# Altium schematic symbol library Integral_Digital.SchLib: 5 symbols
Pins are listed as number, name and electrical type; pins without a type are passive.

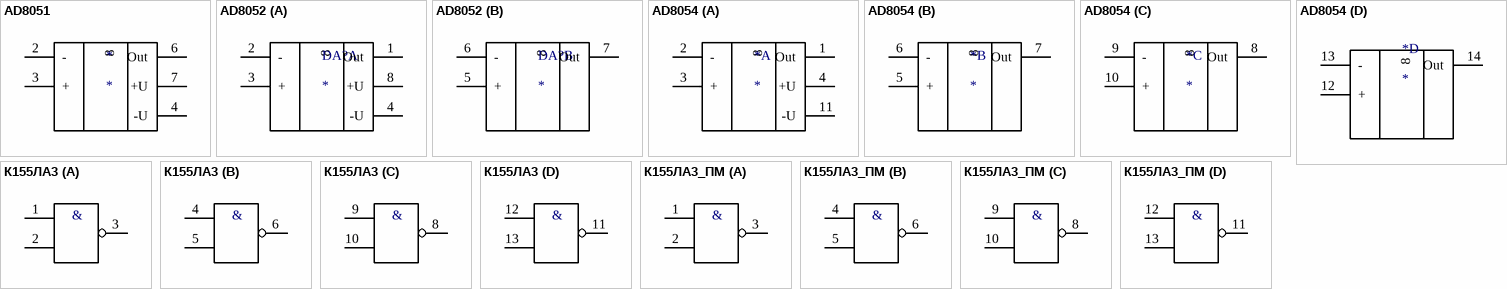
[diagram p0: symbols AD8051 to К155ЛА3_ПМ]

## AD8051
designator *
pins: 2 -, 3 +, 4 -U, 6 Out, 7 +U, 8 NC hidden to NC

## AD8052
designator DA?
part A pins: 1 Out, 2 -, 3 +, 4 -U, 8 +U
part B pins: 5 +, 6 -, 7 Out

## AD8054
designator *
part A pins: 1 Out, 2 -, 3 +, 4 +U, 11 -U
part B pins: 5 +, 6 -, 7 Out
part C pins: 8 Out, 9 -, 10 +
part D pins: 12 +, 13 -, 14 Out

## К155ЛА3
designator ?
pins on every part: 7 GND (power) hidden to GND, 14 +5V (power) hidden to +5V
part A pins: 1, 2, 3
part B pins: 4, 5, 6
part C pins: 8, 9, 10
part D pins: 11, 12, 13
part A text: &
part B text: &
part C text: &
part D text: &

## К155ЛА3_ПМ
designator ?
footprint К155ЛА3
pins on every part: 7 GND (power) hidden to GND, 14 +5V (power) hidden to +5V
part A pins: 1, 2, 3
part B pins: 4, 5, 6
part C pins: 8, 9, 10
part D pins: 11, 12, 13
part A text: &
part B text: &
part C text: &
part D text: &